# EAGLE library part TPS79601DCQ (library NetGeeks)
TPS79601DCQ, Low Dropout Voltage Regulator, Adjustable 1A, 1.2 5.5 V 2%, 6-Pin SOT-223 Source: Datasheet <http://www.ti.com/lit/ds/symlink/tps79625.pdf>
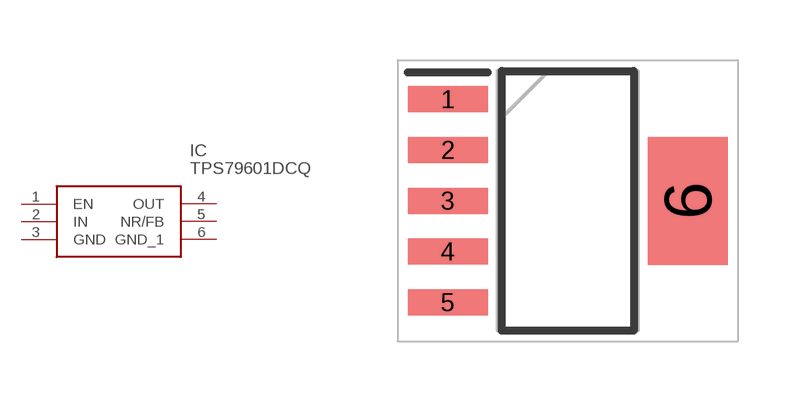
[diagram p5: symbol with the pads of SOT127P706X180-6N; footprint SOT127P706X180-6N]

Designator prefix IC

## TPS79601DCQ (Arrow_Part_Number: TPS79601DCQ; Arrow_Price/Stock: https://www.arrow.com/en/products/tps79601dcq/texas-instruments; Description: TPS79601DCQ, Low Dropout Voltage Regulator, Adjustable 1A, 1.2 5.5 V 2%, 6-Pin SOT-223; Height: 1.8mm; Manufacturer_Name: Texas Instruments; Manufacturer_Part_Number: TPS79601DCQ; RS_Part_Number: 1624922; RS_Price/Stock: http://uk.rs-online.com/web/p/products/1624922)  [SOT127P706X180-6N]
1  EN
2  IN  in
3  GND  pwr
4  OUT  out
5  NR/FB
6  GND_1  pwr

## Footprint SOT127P706X180-6N (pad centres in mm)
DCQ (R-PDSO-G6)
smd 2 x 0.65: 1 -3,2.54; 2 -3,1.27; 3 -3,0; 4 -3,-1.27; 5 -3,-2.54
smd 2 x 3.2: 6 3,0